# Altium footprint library IMX6UL_ALPHA_PCB.PcbLib: 56 footprints (part 4 of 4)
Each footprint in its own frame and in the unit in brackets; x right, y up, seen from the top. Pads: shape width x height; smd on the part's side, far side on the other; paste and mask are expansions set on the pad; w line width, h text height; cw(c..) or ccw(c..) is an arc to the next point about the centre after c.
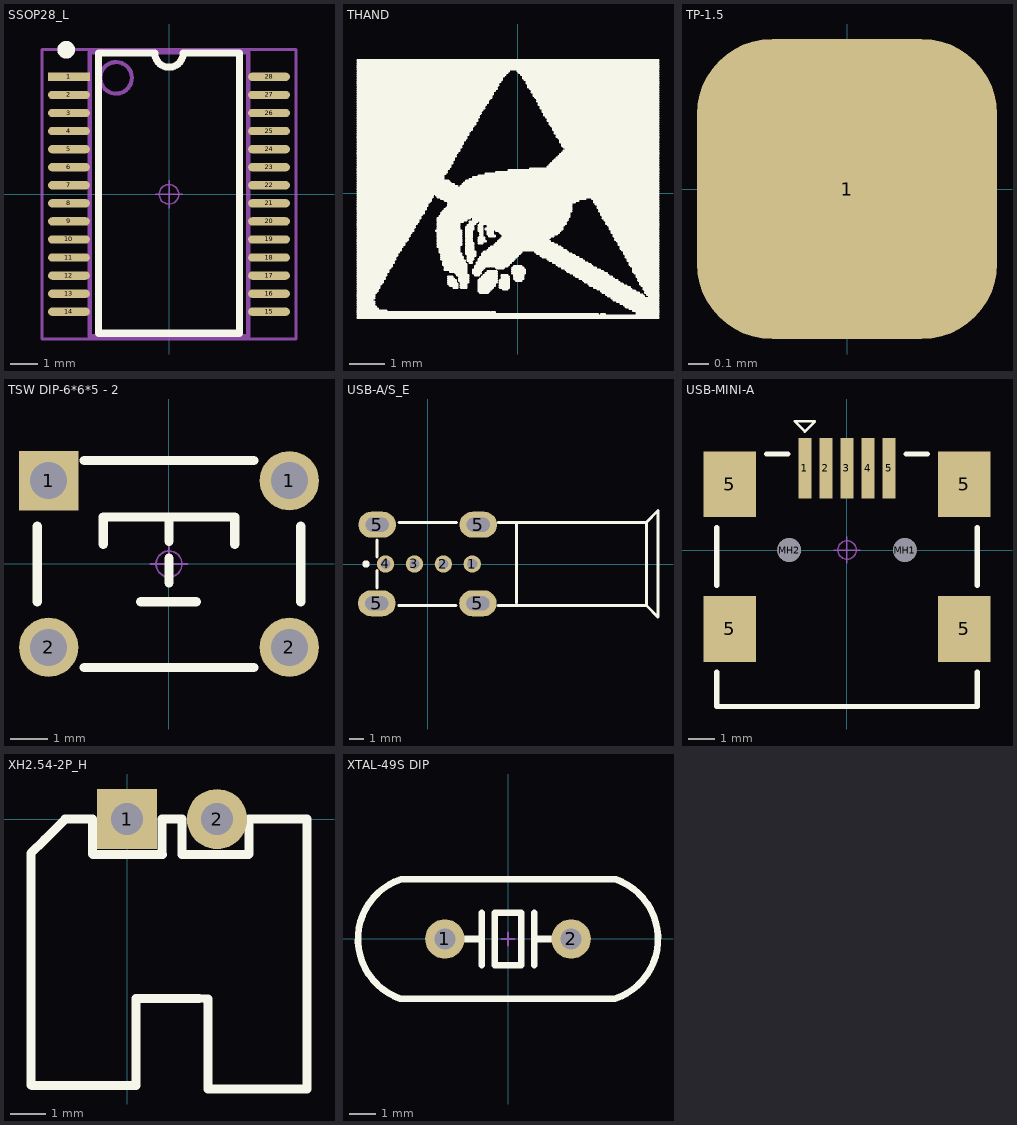
[diagram p3: the footprints below, top view; thin cyan lines are the x and y axes]

## SSOP28_L [mm]
pads (28):
  rect 1.5x0.3 smd: 1(-3.6,4.225)
  oval 1.5x0.3 smd: 2(-3.6,3.575) 3(-3.6,2.925) 4(-3.6,2.275) 5(-3.6,1.625) 6(-3.6,0.975) 7(-3.6,0.325) 8(-3.6,-0.325) 9(-3.6,-0.975) 10(-3.6,-1.625) 11(-3.6,-2.275) 12(-3.6,-2.925) 13(-3.6,-3.575) 14(-3.6,-4.225) 15(3.6,-4.225) 16(3.6,-3.575) 17(3.6,-2.925) 18(3.6,-2.275) 19(3.6,-1.625) 20(3.6,-0.975) 21(3.6,-0.325) 22(3.6,0.325) 23(3.6,0.975) 24(3.6,1.625) 25(3.6,2.275) 26(3.6,2.925) 27(3.6,3.575) 28(3.6,4.225)
Top Overlay:
  circle w0.381: c-3.7,5.2 r0.127
  lines w0.254: -2.54,-5 -2.54,5.08 -0.508,5.08 ccw(c0,5.08) 0.508,5.08 2.54,5.08 2.54,-5 -2.54,-5
Mechanical 13:
  circle w0.15: c-1.905,4.191 r0.568
  lines w0.15: -2.85,-5.1 2.85,-5.1 2.85,5.1 -2.85,5.1 -2.85,-5.1
Mechanical 15:
  circle w0.05: c0,0 r0.35
  lines w0.05: -0.5,0 0.5,0 ; 0,-0.5 0,0.5
  lines w0.1: -4.572,-5.207 -4.572,5.207 4.572,5.207 4.572,-5.207 -4.572,-5.207
3D body "SSOP28.STEP": height 1.65, standoff -0.03, extent -3.852,-5.1 3.852,5.1

## THAND [mm]
Top Overlay:
  drawing of 472 lines, arcs and shapes, not listed

## TP-1.5 [mm]
pads (1):
  rrect50% 1.5x1.5 smd: 1(0,0)

## TSW DIP-6*6*5 - 2 [mm]
pads (4):
  rect 1.6x1.6 hole 1: 1(-3.25,2.25)
  round 1.6 hole 1: 1(3.25,2.25) 2(-3.25,-2.25) 2(3.25,-2.25)
Top Overlay:
  lines w0.254: -3.556,-1.016 -3.556,1.016 ; -2.286,-2.794 2.286,-2.794 ; -2.286,2.794 2.286,2.794 ; -1.778,0.533 -1.778,1.27 1.778,1.27 1.778,0.533 ; -0.762,-1.016 0.737,-1.016 ; 0,-0.508 0,0.152 ; 0,0.61 0,1.27 ; 3.556,-1.016 3.556,1.016
Bottom Overlay:
  lines w0.254: -2.286,-2.286 2.286,-2.286 ; -2.286,2.286 2.286,2.286
Mechanical 15:
  circle w0.05: c0,0 r0.35
  lines w0.05: -0.5,0 0.5,0 ; 0,-0.5 0,0.5
3D body "TSW DIP-6x6x5.STEP": height 4.95, standoff -3.45, extent -4.106,-3 4.106,3

## USB-A/S_E [mm]
pads (8):
  round 1.2 hole 0.7: 1(3.094,0) 2(1.094,0) 3(-0.906,0) 4(-2.906,0)
  oval 2.6x1.8 hole 1 slot 1.6 at 0 deg: 5(-3.513,-2.718) 5(-3.487,2.718) 5(3.487,-2.718) 5(3.513,2.718)
Top Overlay:
  circle w0.25: c-4.256,0 r0.125
  lines w0.127: -3.513,-2.718 -3.487,-2.692
  lines w0.2: -1.996,-2.878 1.97,-2.878 ; -1.97,2.878 1.996,2.878 ; 4.881,-2.88 15.146,-2.88 15.146,2.896 ; 4.881,2.88 15.146,2.88
  lines w0.203: -3.487,-1.651 -3.487,-0.455 ; -3.487,0.481 -3.487,1.651 ; 6.17,-2.71 6.17,2.751 ; 15.146,-2.88 15.949,-3.683 15.949,3.698 15.146,2.896
3D body "USB-4H4.stp": height 14.45, standoff -3.69, extent -4.071,-3.606 15.179,3.644

## USB-MINI-A [mm]
pads (11):
  rect 0.5x2.3 smd: 1(-1.6,3.108) 2(-0.8,3.108) 3(0,3.108) 4(0.8,3.108) 5(1.6,3.108)
  rect 2x2.5 smd: 5(-4.45,-3) 5(-4.45,2.5) 5(4.45,-3) 5(4.45,2.5)
  round 0.9 hole 0.9 unplated: MH1(2.2,0) MH2(-2.2,0)
Top Overlay:
  lines w0.1: -1.981,4.886 -1.6,4.505 -1.219,4.886 -1.981,4.886
  lines w0.2: -4.95,-4.65 -4.95,-5.95 4.95,-5.95 4.95,-4.65 ; -4.95,-1.35 -4.95,0.85 ; -3.05,3.65 -2.25,3.65 ; 2.25,3.65 3.05,3.65 ; 4.95,-1.35 4.95,0.85
Mechanical 15:
  circle w0.05: c0,0 r0.35
  lines w0.05: -0.5,0 0.5,0 ; 0,-0.5 0,0.5
3D body "USB MINI B型 ?": height 3.95, standoff -0.7, extent -4.75,-6 4.75,3.7

## XH2.54-2P_H [mm]
pads (2):
  rect 1.7x1.7 hole 0.9: 1(0,0)
  round 1.7 hole 0.9: 2(2.54,0)
Top Overlay:
  lines w0.254: 3.434,0 3.434,-0.988 3.42,-1.002 1.554,-1.002 1.554,0 0.982,0 0.982,-0.982 0.996,-0.996 -0.96,-0.996 -0.974,-0.982 -0.974,0 -1.75,0 -2.332,-0.582 -2.716,-0.966 -2.716,-7.502 -2.69,-7.528 0.254,-7.528 0.254,-5.058 2.032,-5.058 2.286,-5.08 2.286,-7.62 2.54,-7.62 5.08,-7.62 5.08,0 4.044,0 3.446,0
3D body "XH2.54-2P_H.STEP": height 5.73, standoff -3.37, extent -2.5,-7.35 5.04,0.35

## XTAL-49S DIP [mm]
pads (2):
  round 1.5 hole 0.8: 1(-2.4,0) 2(2.4,0)
Top Overlay:
  lines w0.254: -4.09,-2.275 4.059,-2.275 ccw(c3.298,0.003) 4.09,2.271 ; -4.09,-2.271 cw(c-3.298,-0.003) -4.059,2.275 4.09,2.275 ; -1.6,0 -1,0 ; -1,-1 -1,1 ; 1,-1 1,1 ; 1,0 1.6,0 ; -0.5,-1 0.5,-1 0.5,1 -0.5,1 -0.5,-1
Mechanical 15:
  lines w0.076: -0.254,0 0.254,0 ; 0,-0.254 0,0.254
3D body "SW3dPS-HP49US.STEP": height 3.5, standoff -4, extent -5.675,-2.35 5.675,2.3